# Altium schematic symbol library MBA-591.SCHLIB: 1 symbol
Pins are listed as number, name and electrical type; pins without a type are passive.

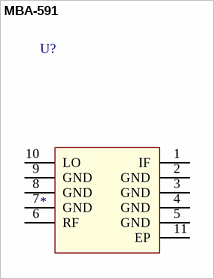
[diagram p0: symbol MBA-591]

## MBA-591
designator U?
Surface Mount Frequency Mixer Level 7 (LO Power +7 dBm) 2800 to 5900 MHz
footprint MBA-591
pins: 1 IF, 2 GND, 3 GND, 4 GND, 5 GND, 6 RF, 7 GND, 8 GND, 9 GND, 10 LO, 11 EP